# Altium footprint library 直流无刷.PcbLib: 36 footprints (part 3 of 3)
Each footprint in its own frame and in the unit in brackets; x right, y up, seen from the top. Pads: shape width x height; smd on the part's side, far side on the other; paste and mask are expansions set on the pad; w line width, h text height; cw(c..) or ccw(c..) is an arc to the next point about the centre after c.
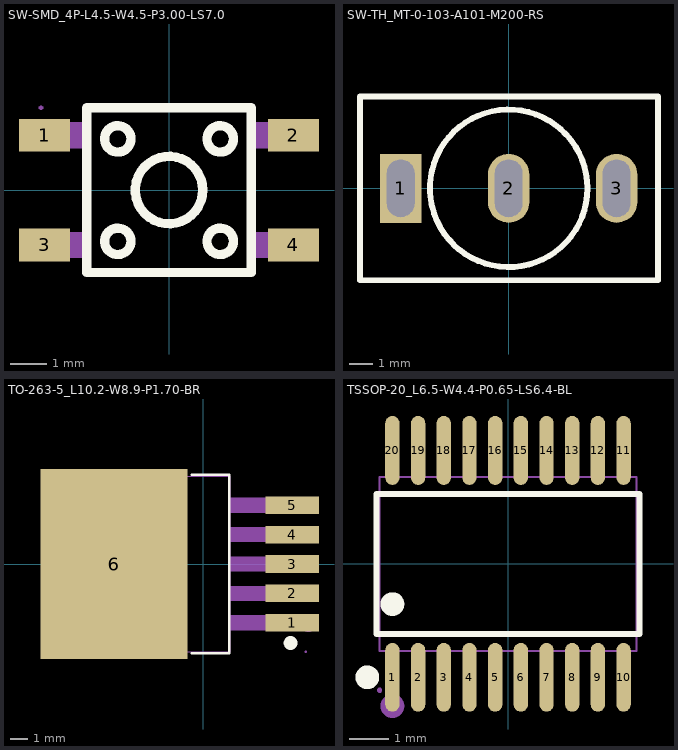
[diagram p2: the footprints below, top view; thin cyan lines are the x and y axes]

## SW-SMD_4P-L4.5-W4.5-P3.00-LS7.0 [mm]
pads (4):
  rect 1.4x0.9 smd mask+0.051: 1(-3.4,1.5) 2(3.4,1.5) 3(-3.4,-1.5) 4(3.4,-1.5)
Top Overlay:
  circle w0.254: c0,0 r0.922
  circle w0.254: c1.4,1.4 r0.361
  circle w0.254: c-1.4,1.4 r0.361
  circle w0.254: c-1.4,-1.4 r0.361
  circle w0.254: c1.4,-1.4 r0.361
  lines w0.254: -2.25,-2.25 2.25,-2.25 2.25,2.25 -2.25,2.25 -2.25,-2.25
Mechanical 15:
  region: -3.44,2.25 -3.44,2.275 -3.475,2.31 -3.525,2.31 -3.56,2.275 -3.56,2.25 -3.56,2.225 -3.525,2.19 -3.475,2.19 -3.44,2.225
  region: 2.24,-1.85 2.24,-1.15 3.01,-1.15 3.01,-1.85
  region: 3,-1.85 3,-1.15 3.5,-1.15 3.5,-1.85
  region: -3.01,-1.85 -3.01,-1.15 -2.24,-1.15 -2.24,-1.85
  region: -3.5,-1.85 -3.5,-1.15 -3,-1.15 -3,-1.85
  region: 2.24,1.15 2.24,1.85 3.01,1.85 3.01,1.15
  region: 3,1.15 3,1.85 3.5,1.85 3.5,1.15
  region: -3.01,1.15 -3.01,1.85 -2.24,1.85 -2.24,1.15
  region: -3.5,1.15 -3.5,1.85 -3,1.85 -3,1.15
  lines w0.051: -2.25,-2.25 -2.25,2.25 2.25,2.25 2.25,-2.25 -2.25,-2.25

## SW-TH_MT-0-103-A101-M200-RS [mm]
pads (3):
  rect 1.8x3 hole 1.2 slot 2.5 at 90 deg mask+0.051: 1(-4.7,0)
  oval 1.8x3 hole 1.2 slot 2.5 at 90 deg mask+0.051: 2(0,0) 3(4.7,0)
Top Overlay:
  circle w0.254: c0,0 r3.429
  lines w0.254: -6.477,-4 -6.477,4 6.5,4 6.5,-4 -6.477,-4
Mechanical 15:
  region: -0.4,1 0.4,1 0.4,-1 -0.4,-1
  region: -5.1,1 -4.3,1 -4.3,-1 -5.1,-1
  region: 4.3,1 5.1,1 5.1,-1 4.3,-1
  region: -6.44,-4 -6.44,-3.975 -6.475,-3.94 -6.525,-3.94 -6.56,-3.975 -6.56,-4 -6.56,-4.025 -6.525,-4.06 -6.475,-4.06 -6.44,-4.025
  lines w0.051: -6.5,-4 -6.5,4 6.5,4 6.5,-4 -6.5,-4

## TO-263-5_L10.2-W8.9-P1.70-BR [mm]
pads (6):
  rect 3.083x1.02 smd mask+0.051: 1(5.16,-3.4) 2(5.16,-1.7) 3(5.16,0) 4(5.16,1.7) 5(5.16,3.4)
  rect 8.5x11 smd mask+0.051: 6(-5.16,0)
Top Overlay:
  circle w0.4: c5.057,-4.572 r0.2
  lines w0.15: -0.658,-5.156 1.156,-5.156 ; -0.658,5.156 1.131,5.156 ; 1.032,-5.156 1.501,-5.156 ; 1.032,5.156 1.501,5.156
  lines w0.152: 1.501,-5.156 1.501,5.156
Mechanical 6:
  circle w0.5: c6.073,-3.429 r0.25
Mechanical 15:
  region: 3.956,3.82 5.936,3.82 5.936,2.98 3.956,2.98
  region: 3.956,2.12 5.936,2.12 5.936,1.28 3.956,1.28
  region: 3.956,0.42 5.936,0.42 5.936,-0.42 3.956,-0.42
  region: 3.956,-1.28 5.936,-1.28 5.936,-2.12 3.956,-2.12
  region: 3.959,3.82 3.959,2.98 1.55,2.98 1.55,3.82
  region: 3.959,2.12 3.959,1.28 1.55,1.28 1.55,2.12
  region: 3.959,0.42 3.959,-0.42 1.55,-0.42 1.55,0.42
  region: 3.959,-1.28 3.959,-2.12 1.55,-2.12 1.55,-1.28
  region: 3.956,-2.98 5.936,-2.98 5.936,-3.82 3.956,-3.82
  region: -1.234,5.08 -1.234,-5.08 -7.398,-5.08 -8.414,-4.064 -8.414,4.064 -7.398,5.08
  region: 3.959,-2.98 3.959,-3.82 1.55,-3.82 1.55,-2.98
  region: 5.996,-5.08 5.996,-5.055 5.96,-5.02 5.911,-5.02 5.876,-5.055 5.876,-5.08 5.876,-5.105 5.911,-5.14 5.96,-5.14 5.996,-5.105
  lines w0.051: -7.144,-5.08 -7.144,5.08 1.556,5.08 1.556,-5.08 -7.144,-5.08

## TSSOP-20_L6.5-W4.4-P0.65-LS6.4-BL [mm]
pads (20):
  oval 0.364x1.742 smd paste+0 mask+0.051: 1(-2.925,-2.871) 2(-2.275,-2.871) 3(-1.625,-2.871) 4(-0.975,-2.871) 5(-0.325,-2.871) 6(0.325,-2.871) 7(0.975,-2.871) 8(1.625,-2.871) 9(2.275,-2.871) 10(2.925,-2.871) 11(2.925,2.871) 12(2.275,2.871) 13(1.625,2.871) 14(0.975,2.871) 15(0.325,2.871) 16(-0.325,2.871) 17(-0.975,2.871) 18(-1.625,2.871) 19(-2.275,2.871) 20(-2.925,2.871)
Top Overlay:
  circle w0.3: c-2.925,-1.019 r0.15
  circle w0.3: c-3.559,-2.871 r0.15
  lines w0.152: -3.326,-1.771 -3.326,1.771 3.326,1.771 3.326,-1.771 -3.326,-1.771
Mechanical 6:
  circle w0.3: c-2.925,-3.6 r0.15
Mechanical 15:
  drawing of 45 lines, arcs and shapes, not listed